# Altium footprint library SMA (DO-214AC)Z.PcbLib: 1 footprints
Each footprint in its own frame and in the unit in brackets; x right, y up, seen from the top. Pads: shape width x height; smd on the part's side, far side on the other; paste and mask are expansions set on the pad; w line width, h text height; cw(c..) or ccw(c..) is an arc to the next point about the centre after c.
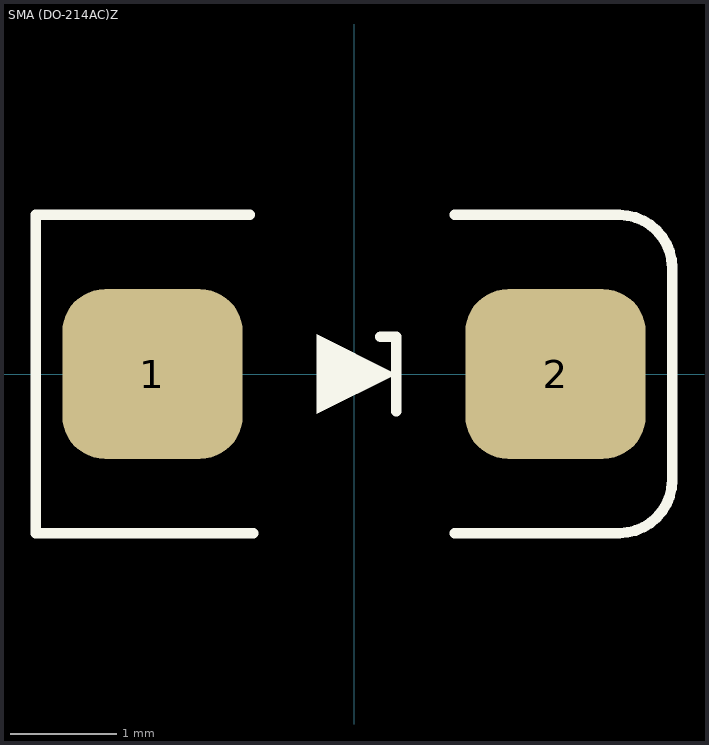
[diagram p0: the footprint, top view; thin cyan lines are the x and y axes]

## SMA (DO-214AC)Z [mm] "DO-214-AC/SMA; 2 C-Bend Leads; Body 5 x 2.7 mm, inc. leads (LxW)"
height 2.44
pads (2):
  rrect50% 1.7x1.6 smd: 1(-1.9,0) 2(1.9,0)
Top Overlay:
  region: -0.35,0.375 0.4,0 -0.35,-0.375
  lines w0.1: -0.983,1.5 -3,1.5 -3,-1.5 -0.95,-1.5 ; 0.25,0.35 0.4,0.35 0.4,-0.35 ; 0.95,-1.5 2.5,-1.5 ccw(c2.5,-1) 3,-1 3,1 ccw(c2.5,1) 2.5,1.5 0.95,1.5
3D body "SMA (DO-214AC).STEP": height 2.15, standoff -0.05, extent -2.5,-1.35 2.5,1.35